# Altium schematic symbol library RES_TH.SchLib: 16 symbols
Pins are listed as number, name and electrical type; pins without a type are passive.

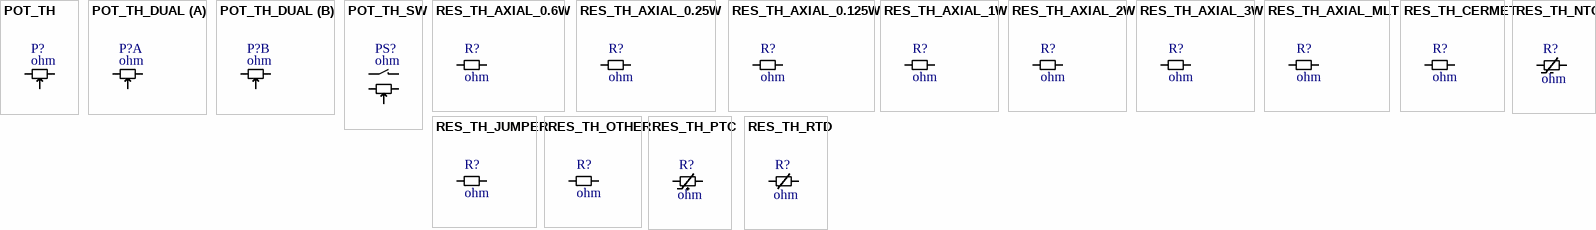
[diagram p0: symbols POT_TH to RES_TH_RTD]

## POT_TH
designator P?, comment ohm
Potentiometer; Value: ohm
footprint POT_7X5 (POT, TRIM, 7.5X5.0mm, pitch: 5.0mm)
footprint POT_3006P (POT, TRIM, 19.0X4.8mm 3006P)
footprint POT_3260H (POT, TRIM, 4.3X6.3mm 3260H)
footprint POT_3262W (POT, TRIM, 4.3X6.6mm 3262W)
footprint POT_3296P (POT, TRIM, 9.5X9.5mm HORIZENTAL 3296P)
pins: 1, 2, 3

## POT_TH_DUAL
designator P?, comment ohm
Dual Potentiometer; Value: ohm
footprint VOL_DUAL (VOULME RIGHT ANGLE DUAL 3RP/1610G)
footprint R Pot R16T3-R
footprint R Pot R16T1
part A pins: 1, 2, 3
part B pins: 4, 5, 6

## POT_TH_SW
designator PS?, comment ohm
Potentiometer with switch; Value: ohm
footprint R Pot R16KN1
pins: 1, 2, 3, 4, 5

## RES_TH_AXIAL_0.6W
designator R?, comment ohm
Value: ohm
footprint R CF 0.6W 1% 300
footprint R MF 0.6W 1% 100 Ver
footprint R MF 0.6W 1% 150 Ver
footprint R MF 0.6W 1% 300
footprint R MF 0.6W 1% 400
footprint R MF 0.6W 1% 500
footprint R MF 0.6W 100 Ver
footprint R MF 0.6W 150 Ver
footprint R MF 0.6W 1% 300
footprint R MF 0.6W 300
footprint R MF 0.6W 400
footprint R MF 0.6W 500
pins: 1, 2

## RES_TH_AXIAL_0.25W
designator R?, comment ohm
Value: ohm
footprint R CF 0.25W 5% 100 Ver
footprint R CF 0.25W 5% 150 Ver
footprint R CF 0.25W 5% 300
footprint R CF 0.25W 5% 400
footprint R CF 0.25W 5% 500
footprint R CF 0.25W 5% 600
footprint R CF 0.25W 5% 700
footprint R CF 0.25W 5% 800
footprint R MF 0.25W 1% 100 Ver
footprint R MF 0.25W 1% 150 Ver
footprint R MF 0.25W 1% 300
footprint R MF 0.25W 1% 400
footprint R MF 0.25W 1% 500
footprint R MF 0.25W 100 Ver
footprint R MF 0.25W 150 Ver
footprint R MF 0.25W 300
footprint R MF 0.25W 400
footprint R MF 0.25W 500
pins: 1, 2

## RES_TH_AXIAL_0.125W
designator R?, comment ohm
Value: ohm
footprint R CF 0.125W 5% 100 Ver
footprint R CF 0.125W 5% 200
footprint R CF 0.125W 5% 300
footprint R MF 0.125W 1% 100 Ver
footprint R MF 0.125W 1% 200
footprint R MF 0.125W 1% 300
pins: 1, 2

## RES_TH_AXIAL_1W
designator R?, comment ohm
Value: ohm
footprint R C5-16M 1W 850
footprint R C5-16M 1W 1000
footprint R CFS 1W 100 Ver
footprint R CFS 1W 150 Ver
footprint R CFS 1W 200 Ver
footprint R CFS 1W 500
footprint R CFS 1W 550
footprint R CFS 1W 600
footprint R CFS 1W 700
footprint R CFS 1W 800
footprint R MO 1W 150 Ver
footprint R MO 1W 200 Ver
footprint R MO 1W 550
footprint R MO 1W 700
footprint R MO 1W 800
footprint R MO 1W 600
pins: 1, 2

## RES_TH_AXIAL_2W
designator R?, comment ohm
Value: ohm
footprint R C5-16M 2W 1000
footprint R CF 2W 150 Ver
footprint R CF 2W 200 Ver
footprint R CF 2W 300 Ver
footprint R CF 2W 650
footprint R CF 2W 700
footprint R CF 2W 800
footprint R MO 2W 150 Ver
footprint R MO 2W 200 Ver
footprint R MO 2W 300 Ver
footprint R MO 2W 700
footprint R MO 2W 800
pins: 1, 2

## RES_TH_AXIAL_3W
designator R?, comment ohm
Value: ohm
footprint R MO 3W 150 Ver
footprint R MO 3W 200 Ver
footprint R MO 3W 750
footprint R MO 3W 800
pins: 1, 2

## RES_TH_AXIAL_MLT
designator R?, comment ohm
Value: ohm
footprint R MLT 0.5W 500
footprint R MLT 1W 200 Ver
footprint R MLT 1W 600
footprint R MLT 2W 300 Ver
footprint R MLT 2W 800
pins: 1, 2

## RES_TH_CERMET
designator R?, comment ohm
Value: ohm
footprint R Cem 5W 200A Ver
footprint R Cem 5W 200b Ver
footprint R Cem 5W 300b Ver
footprint R Cem 5W 850
footprint R Cem 5W 900
footprint R Cem 5W 1000
footprint R Cem 10W 5% 1900
footprint R Cem 10W 5% 2000
footprint R Cem 10W 200A Ver
pins: 1, 2

## RES_TH_JUMPER
designator R?, comment ohm
Value: ohm
footprint Juper 200
footprint Juper 300
footprint Juper 400
footprint Juper 500
footprint Juper 600
footprint Juper 700
footprint Juper 800
footprint JP_RES0_AX2 (JUMPER, RESISTOR 0 Ohm 1/8Watt, Axial 0.24Inch)
footprint JP_RES0_AX3 (JUMPER, RESISTOR 0 Ohm 1/8Watt, Axial0.3Inch)
footprint JP_RES0_AX4 (0 Ohm Jumper Resistor)
pins: 1, 2

## RES_TH_NTC
designator R?, comment ohm
Potentiometer; Value: ohm
footprint NTC D11.5 5.08
footprint NTC D15 3.81-6.35
footprint NTC D15 3.81-7.62
footprint NTC D15 3.81-10.16
footprint NTC D15 3.81-12.7
footprint NTC D15 3.81-15.24
footprint NTC D15 7.62
footprint NTC D15 15.24
footprint NTC D4.2 2.54
footprint NTC D8.5 5.08
pins: 1, 3

## RES_TH_OTHER
designator R?, comment ohm
Value: ohm
footprint R OAR-5 5W 0.01
footprint R OAR-5 5W 0.1
pins: 1, 2

## RES_TH_PTC
designator R?, comment ohm
Potentiometer; Value: ohm
pins: 1, 3

## RES_TH_RTD
designator R?, comment ohm
Potentiometer; Value: ohm
pins: 1, 3